# EAGLE library part BMP280 (library mille-feuille)
Digital Pressure Sensor Bosch Sensortec
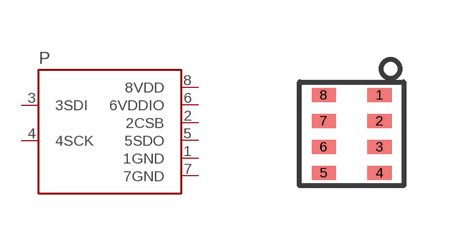
[diagram p5: symbol with the pads of LGA-8; footprint LGA-8]

Designator prefix P

## BMP280  [LGA-8]
1  1GND
2  2CSB
3  3SDI
4  4SCK
5  5SDO
6  6VDDIO
7  7GND
8  8VDD

## Footprint LGA-8 (pad centres in mm)
smd 0.6 x 0.35: 1 0.7,0.975; 2 0.7,0.325; 3 0.7,-0.325; 4 0.7,-0.975; 5 -0.7,-0.975; 6 -0.7,-0.325; 7 -0.7,0.325; 8 -0.7,0.975